# Altium footprint library MP1584.PcbLib: 1 footprints
Each footprint in its own frame and in the unit in brackets; x right, y up, seen from the top. Pads: shape width x height; smd on the part's side, far side on the other; paste and mask are expansions set on the pad; w line width, h text height; cw(c..) or ccw(c..) is an arc to the next point about the centre after c.
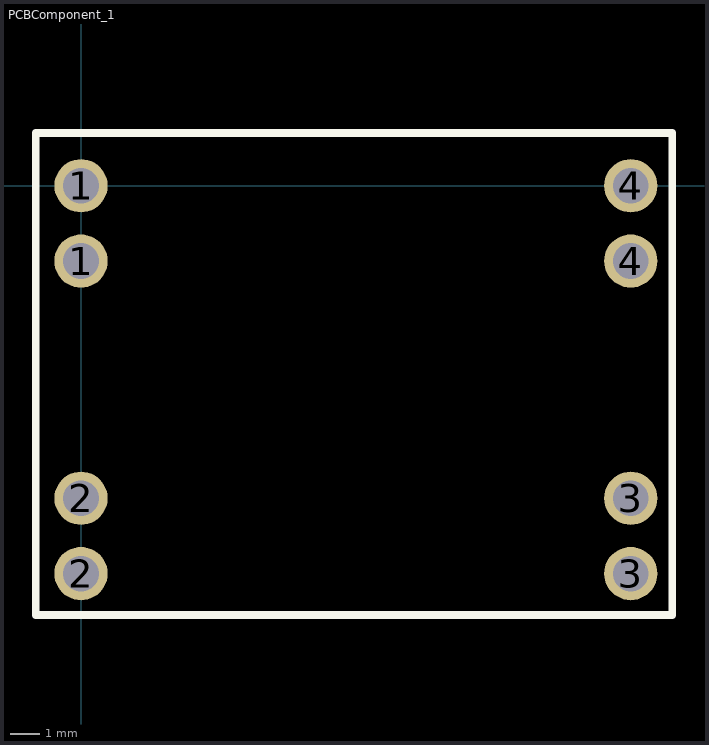
[diagram p0: the footprint, top view; thin cyan lines are the x and y axes]

## PCBComponent_1 [mm]
pads (8):
  round 1.8 hole 1.2: 1(0,-2.54) 1(0,0) 2(0,-13.081) 2(0,-10.541) 3(18.542,-13.081) 3(18.542,-10.541) 4(18.542,-2.54) 4(18.542,0)
Top Overlay:
  lines w0.254: -1.524,-14.478 -1.524,1.778 19.939,1.778 19.939,-14.478 -1.524,-14.478